# Altium footprint library USB_isolator.PcbLib: 19 footprints (part 1 of 2)
Each footprint in its own frame and in the unit in brackets; x right, y up, seen from the top. Pads: shape width x height; smd on the part's side, far side on the other; paste and mask are expansions set on the pad; w line width, h text height; cw(c..) or ccw(c..) is an arc to the next point about the centre after c.
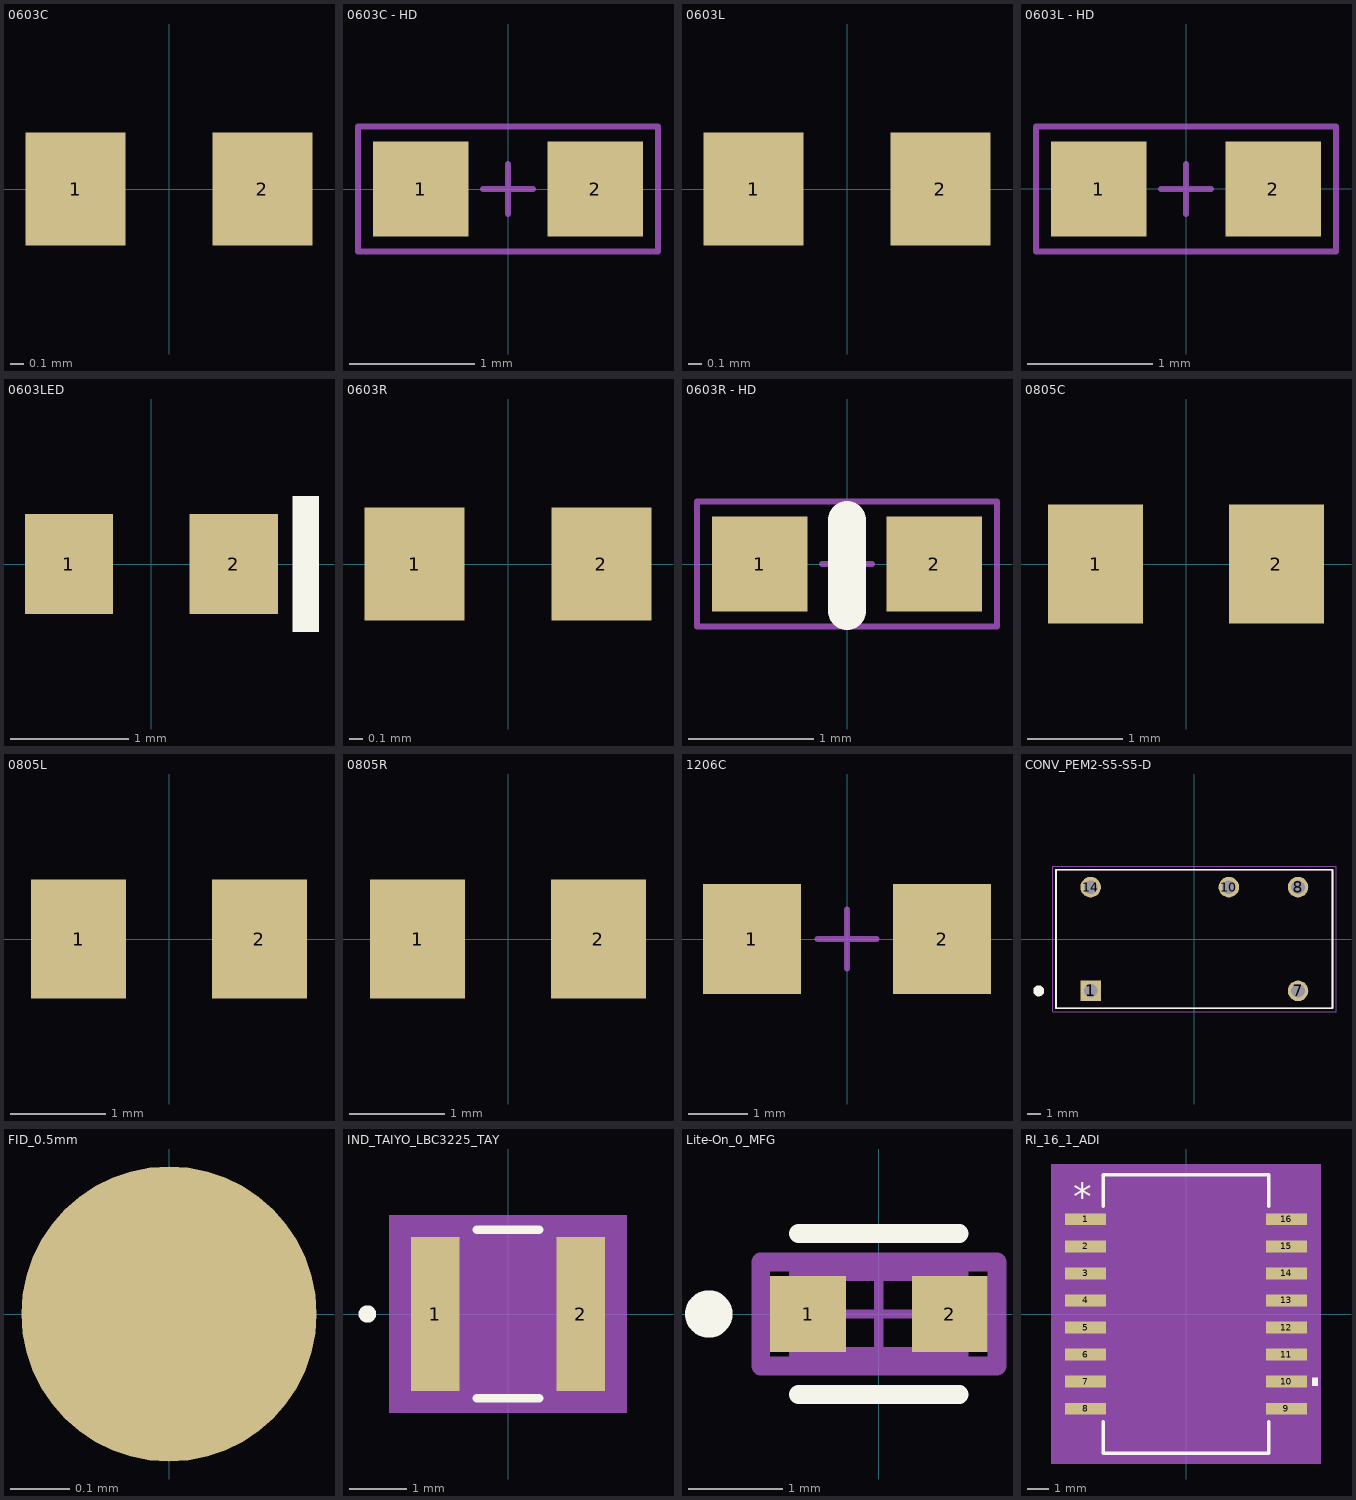
[diagram p0: the footprints below, top view; thin cyan lines are the x and y axes]

## 0603C [mm] "0603 Capacitor"
height 1
pads (2):
  rect 0.75x0.85 smd: 1(-0.7,0) 2(0.7,0)
3D body "CAPC1608X10N.step": height 1, standoff 0, extent -0.85,-0.45 0.85,0.45

## 0603C - HD [mil] "Capacitor 0603 [Imperial]"
height 51.18
pads (2):
  rect 30x30 smd: 1(-27.5,0) 2(27.5,0)
Mechanical 15:
  lines w2: -7.87,0 7.87,0 ; 0,-7.87 0,7.87 ; -47.24,-19.68 -47.24,19.68 47.24,19.68 47.24,-19.68 -47.24,-19.68
3D body "User Library-Chip Capacitor 0603.step": height 31.5, standoff 0, extent -30.51,-16.73 32.48,17.12

## 0603L [mm] "0603 Inductor"
height 0.65
pads (2):
  rect 0.75x0.85 smd: 1(-0.7,0) 2(0.7,0)
3D body "INDC1608X06N.step": height 0.65, standoff 0, extent -0.875,-0.475 0.875,0.475

## 0603L - HD [mil] "Inductor 0603 [Imperial]"
height 51.18
pads (2):
  rect 30x30 smd: 1(-27.5,0) 2(27.5,0)
Mechanical 15:
  lines w2: -7.87,0 7.87,0 ; 0,-7.87 0,7.87 ; -47.24,-19.69 -47.24,19.68 47.24,19.68 47.24,-19.68 -47.24,-19.69
3D body "User Library-Chip Inductor.step": height 31.5, standoff 0, extent -31.5,-18.7 31.49,18.7

## 0603LED [mm] "0603 LED"
pads (2):
  rect 0.75x0.85 smd: 1(-0.7,0) 2(0.7,0)
Top Overlay:
  region: 1.2,0.575 1.425,0.575 1.425,-0.575 1.2,-0.575
3D body "LTST-C190EKT 0603 LED.STEP": height 0.9, standoff 0, extent -0.85,-0.45 0.85,0.45

## 0603R [mm] "0603 Resistor"
height 0.55
pads (2):
  rect 0.75x0.85 smd: 1(-0.7,0) 2(0.7,0)
3D body "RESC1608X06N.step": height 0.55, standoff 0, extent -0.85,-0.45 0.85,0.45

## 0603R - HD [mil]
pads (2):
  rect 30x30 smd: 1(-27.5,0) 2(27.5,0)
Top Overlay:
  lines w12: 0,-14.76 0,13.78
Mechanical 15:
  lines w2: -7.87,0 7.87,0 ; 0,-7.87 0,7.87 ; -47.24,-19.68 -47.24,19.68 47.24,19.68 47.24,-19.68 -47.24,-19.68
3D body "res0603r.STEP": height 17.72, standoff 0, extent -30.99,-15.74 32.01,15.75

## 0805C [mm] "0805 Capacitor"
height 1.35
pads (2):
  rect 1x1.25 smd: 1(-0.95,0) 2(0.95,0)
3D body "CAPC2012X14N.step": height 1.35, standoff 0, extent -1.05,-0.675 1.05,0.675

## 0805L [mm] "0805 Inductor"
height 1.1
pads (2):
  rect 1x1.25 smd: 1(-0.95,0) 2(0.95,0)
3D body "INDC2012X11N.step": height 1.1, standoff 0, extent -1.1,-0.725 1.1,0.725

## 0805R [mm] "0805 Resistor"
height 1.35
pads (2):
  rect 1x1.25 smd: 1(-0.95,0) 2(0.95,0)
3D body "RESC2012X06N.step": height 0.65, standoff 0, extent -1.075,-0.7 1.075,0.7

## 1206C [mm] "Chip 1206C Capacitor, Body 3.2x1.6mm, Height 1.8mm"
height 1.8
pads (2):
  rect 1.65x1.85 smd: 1(-1.6,0) 2(1.6,0)
Mechanical 15:
  lines w0.1: -0.5,0 0.5,0 ; 0,-0.5 0,0.5
3D body "CAPC3216X18N.step": height 1.8, standoff 0, extent -1.675,-0.875 1.675,0.875

## CONV_PEM2-S5-S5-D [mm]
pads (5):
  rect 1.508x1.508 hole 1: 1(-7.62,-3.81)
  round 1.508 hole 1: 7(7.62,-3.81) 8(7.62,3.81) 10(2.54,3.81) 14(-7.62,3.81)
Top Overlay:
  circle w0.4: c-11.43,-3.81 r0.2
  lines w0.127: -10.16,-5.08 10.16,-5.08 10.16,5.08 -10.16,5.08 -10.16,-5.08
Mechanical 13:
  circle w0.4: c-7.62,-3.81 r0.2
  lines w0.127: -10.16,-5.08 -10.16,5.08 10.16,5.08 10.16,-5.08 -10.16,-5.08
Mechanical 15:
  lines w0.05: -10.41,-5.33 10.41,-5.33 10.41,5.33 -10.41,5.33 -10.41,-5.33
3D body "CUI_PEM2-S5-S5-D.step": height 7.7, standoff -4.6, extent -10.287,-5.08 10.033,5.08

## FID_0.5mm [mm] "Fiducial"
pads (1):
  round 0.5 smd paste-10 mask+0.5: ""(0,0)

## IND_TAIYO_LBC3225_TAY [mm]
pads (2):
  rect 0.85x2.7 smd paste+0 mask+0: 1(-1.275,0) 2(1.275,0)
Top Overlay:
  circle w0.152: c-2.462,0 r0.076
  lines w0.152: -0.541,-1.473 0.541,-1.473 ; -0.541,1.473 0.541,1.473
Mechanical 5:
  region: 2.081,-1.727 -2.081,-1.727 -2.081,1.727 2.081,1.727
Mechanical 13:
  circle w0: c-1.651,0 r0.076
  lines w0.025: -1.727,-1.346 -1.727,1.346 1.727,1.346 1.727,-1.346 -1.727,-1.346
Mechanical 15:
  region: -1.981,-1.604 -1.981,1.604 1.981,1.604 1.981,-1.604
  lines w0.152: -1.981,-1.604 1.981,-1.604 1.981,1.604 -1.981,1.604 -1.981,-1.604
3D body "IND_TAIYO_LBC3225_TAY.step": height 2.7, standoff 0, extent -1.727,-1.349 1.727,1.349

## Lite-On_0_MFG [mm]
pads (2):
  rect 0.8x0.8 smd paste+0 mask+0: 1(-0.75,0) 2(0.75,0)
Top Overlay:
  circle w0.25: c-1.8,0 r0.125
  lines w0.2: -0.85,-0.85 0.85,-0.85 ; -0.85,0.85 0.85,0.85
Mechanical 10:
  lines w0.2: -1.25,-0.55 1.25,-0.55 1.25,0.55 -1.25,0.55 -1.25,-0.55
Mechanical 12:
  lines w0.2: -0.85,-0.45 0.85,-0.45 0.85,0.45 -0.85,0.45 -0.85,-0.45
Mechanical 15:
  lines w0.1: -0.5,0 0.5,0 ; 0,-0.5 0,0.5
  lines w0.2: -1.25,-0.55 1.25,-0.55 1.25,0.55 -1.25,0.55 -1.25,-0.55
3D body "Diode_Lite-On_LTST-C190GKT_eec.STEP": height 0.25, standoff 0, extent -1.25,-0.55 1.25,0.55

## RI_16_1_ADI [mm]
pads (16):
  rect 1.925x0.56 smd paste+0 mask+0: 1(-4.713,4.445) 2(-4.713,3.175) 3(-4.713,1.905) 4(-4.713,0.635) 5(-4.713,-0.635) 6(-4.713,-1.905) 7(-4.713,-3.175) 8(-4.713,-4.445) 9(4.713,-4.445) 10(4.713,-3.175) 11(4.713,-1.905) 12(4.713,-0.635) 13(4.713,0.635) 14(4.713,1.905) 15(4.713,3.175) 16(4.713,4.445)
Top Overlay:
  region: 5.929,-2.984 6.183,-2.984 6.183,-3.365 5.929,-3.365
  lines w0.152: -3.877,-5.058 -3.877,-6.527 3.877,-6.527 3.877,-5.058 ; -3.877,5.058 -3.877,6.527 3.877,6.527 3.877,5.058
  text "*" at -5.284,4.878 h1.27
Mechanical 5:
  region: 6.31,-7.035 -6.31,-7.035 -6.31,7.035 6.31,7.035
Mechanical 13:
  lines w0: -0.305,6.4 ccw(c0,6.4) 0.305,6.4
  lines w0.025: -5.325,-4.7 -3.75,-4.7 -3.75,-4.19 -5.325,-4.19 -5.325,-4.7 ; -5.325,-3.43 -3.75,-3.43 -3.75,-2.92 -5.325,-2.92 -5.325,-3.43 ; -5.325,-2.16 -3.75,-2.16 -3.75,-1.65 -5.325,-1.65 -5.325,-2.16 ; -5.325,-0.89 -3.75,-0.89 -3.75,-0.38 -5.325,-0.38 -5.325,-0.89 ; -5.325,0.38 -3.75,0.38 -3.75,0.89 -5.325,0.89 -5.325,0.38 ; -5.325,1.65 -3.75,1.65 -3.75,2.16 -5.325,2.16 -5.325,1.65 ; -5.325,2.92 -3.75,2.92 -3.75,3.43 -5.325,3.43 -5.325,2.92 ; -5.325,4.19 -3.75,4.19 -3.75,4.7 -5.325,4.7 -5.325,4.19 ; -3.75,-6.4 -3.75,6.4 3.75,6.4 3.75,-6.4 -3.75,-6.4 ; 3.75,-4.7 5.325,-4.7 5.325,-4.19 3.75,-4.19 3.75,-4.7 ; 3.75,-3.43 5.325,-3.43 5.325,-2.92 3.75,-2.92 3.75,-3.43 ; 3.75,-2.16 5.325,-2.16 5.325,-1.65 3.75,-1.65 3.75,-2.16 ; 3.75,-0.89 5.325,-0.89 5.325,-0.38 3.75,-0.38 3.75,-0.89 ; 3.75,0.38 5.325,0.38 5.325,0.89 3.75,0.89 3.75,0.38 ; 3.75,1.65 5.325,1.65 5.325,2.16 3.75,2.16 3.75,1.65 ; 3.75,2.92 5.325,2.92 5.325,3.43 3.75,3.43 3.75,2.92 ; 3.75,4.19 5.325,4.19 5.325,4.7 3.75,4.7 3.75,4.19
  text "*" at -3.687,5.054 h1.27
Mechanical 15:
  region: -4.004,-4.979 -5.929,-4.979 -5.929,4.979 -4.004,4.979 -4.004,6.654 4.004,6.654 4.004,4.979 5.929,4.979 5.929,-4.979 4.004,-4.979 4.004,-6.654 -4.004,-6.654
  lines w0.152: -5.929,-4.979 -4.004,-4.979 -4.004,-6.654 4.004,-6.654 4.004,-4.979 5.929,-4.979 5.929,4.979 4.004,4.979 4.004,6.654 -4.004,6.654 -4.004,4.979 -5.929,4.979 -5.929,-4.979
3D body "RI_16_1_ADI.step": height 2.64, standoff 0, extent -5.325,-6.4 5.325,6.4